# Altium footprint library Sensor_Glove-X02.PcbLib: 47 footprints (part 3 of 3)
Each footprint in its own frame and in the unit in brackets; x right, y up, seen from the top. Pads: shape width x height; smd on the part's side, far side on the other; paste and mask are expansions set on the pad; w line width, h text height; cw(c..) or ccw(c..) is an arc to the next point about the centre after c.
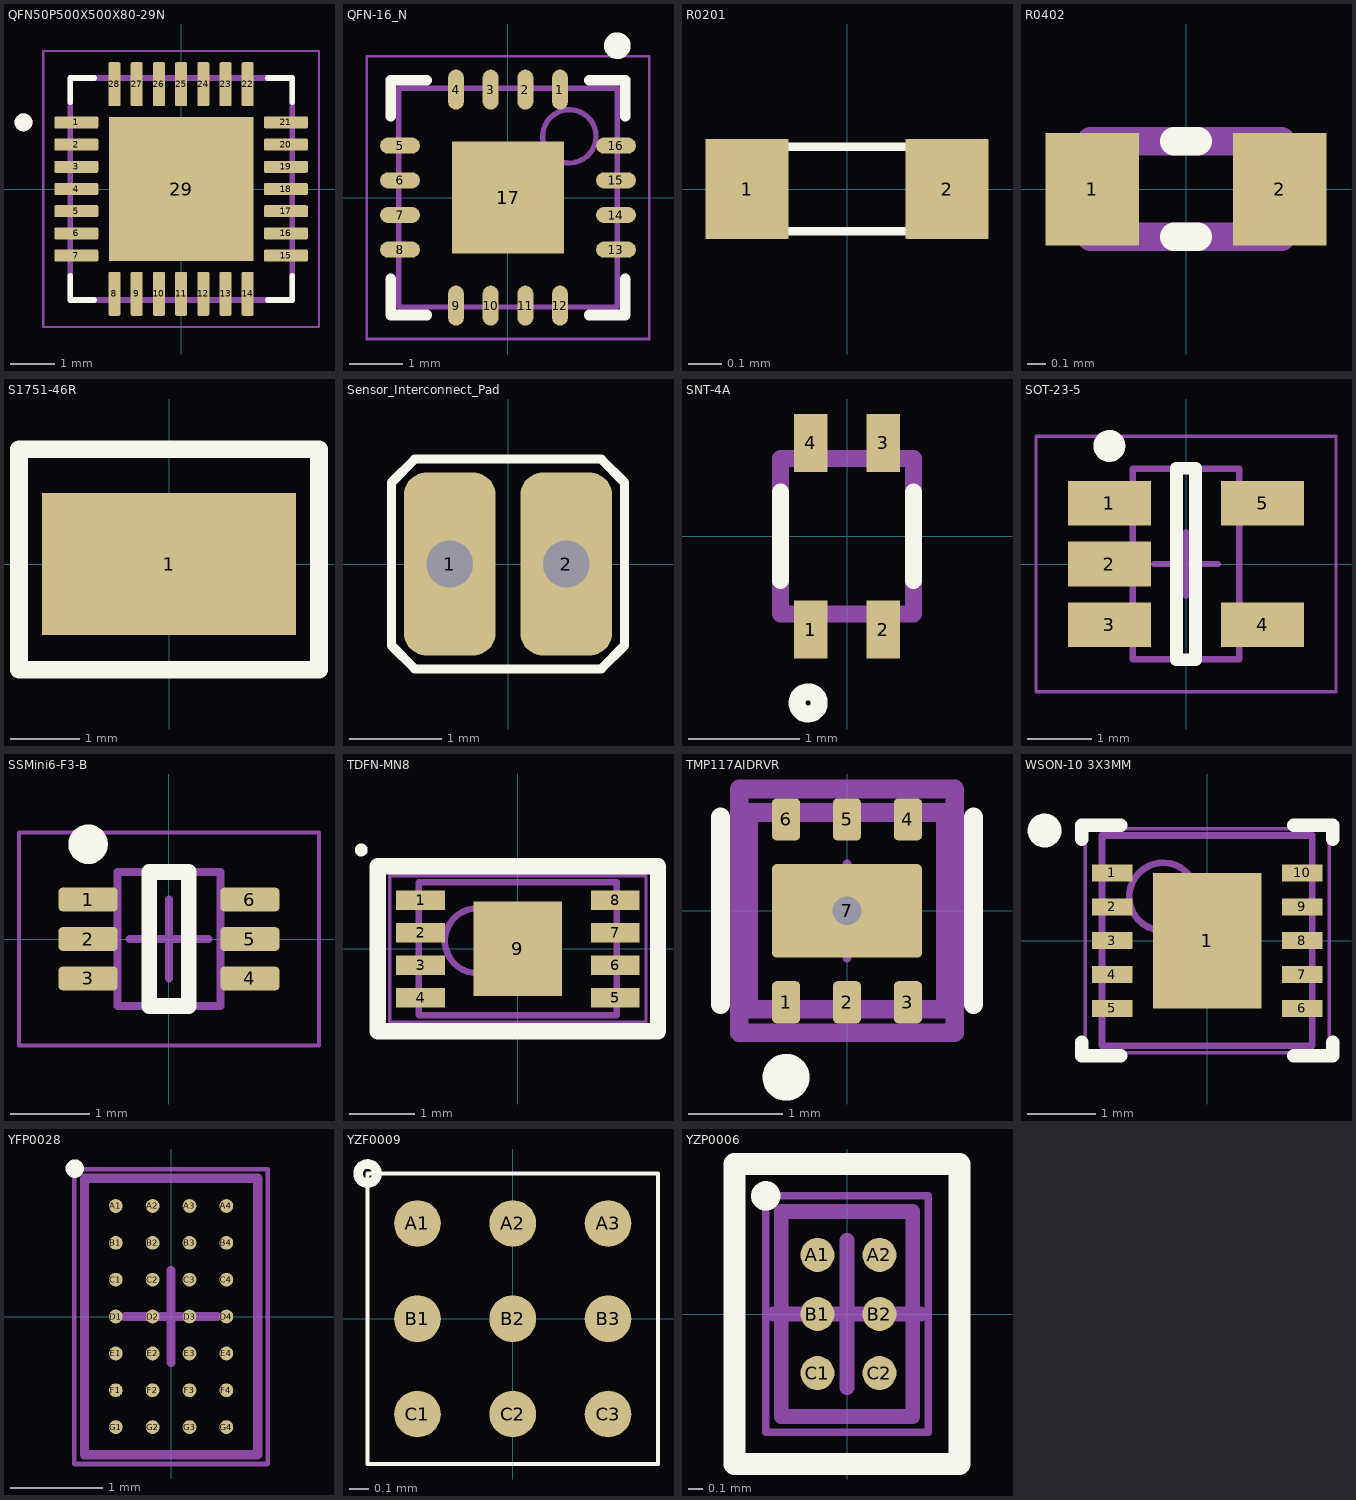
[diagram p2: the footprints below, top view; thin cyan lines are the x and y axes]

## QFN50P500X500X80-29N [mm]
pads (29):
  rrect25% 0.99x0.27 smd: 1(-2.36,1.5) 2(-2.36,1) 3(-2.36,0.5) 4(-2.36,0) 5(-2.36,-0.5) 6(-2.36,-1) 7(-2.36,-1.5) 15(2.36,-1.5) 16(2.36,-1) 17(2.36,-0.5) 18(2.36,0) 19(2.36,0.5) 20(2.36,1) 21(2.36,1.5)
  rrect25% 0.27x0.99 smd: 8(-1.5,-2.36) 9(-1,-2.36) 10(-0.5,-2.36) 11(0,-2.36) 12(0.5,-2.36) 13(1,-2.36) 14(1.5,-2.36) 22(1.5,2.36) 23(1,2.36) 24(0.5,2.36) 25(0,2.36) 26(-0.5,2.36) 27(-1,2.36) 28(-1.5,2.36)
  rect 3.25x3.25 smd paste-3: 29(0,0)
Top Overlay:
  circle w0.2: c-3.55,1.5 r0.1
  lines w0.127: -2.5,-1.955 -2.5,-2.5 -1.955,-2.5 ; -2.5,1.955 -2.5,2.5 -1.955,2.5 ; 1.955,-2.5 2.5,-2.5 2.5,-1.955 ; 1.955,2.5 2.5,2.5 2.5,1.955
Top Paste:
  region: 1.03,-1.03 -1.03,-1.03 -1.03,1.03 1.03,1.03
Mechanical 13:
  circle w0.2: c-3.55,1.5 r0.1
  lines w0.127: -2.5,-2.5 2.5,-2.5 2.5,2.5 -2.5,2.5 -2.5,-2.5
Mechanical 15:
  lines w0.05: -3.105,-3.105 3.105,-3.105 3.105,3.105 -3.105,3.105 -3.105,-3.105
3D body "21-0140L_T2855-8.step": height 0.81, standoff 0, extent -2.553,-2.553 2.553,2.553

## QFN-16_N [mm]
pads (17):
  oval 0.3x0.75 smd: 1(0.975,2.025) 2(0.325,2.025) 3(-0.325,2.025) 4(-0.975,2.025) 9(-0.975,-2.025) 10(-0.325,-2.025) 11(0.325,-2.025) 12(0.975,-2.025)
  oval 0.75x0.3 smd: 5(-2.025,0.975) 6(-2.025,0.325) 7(-2.025,-0.325) 8(-2.025,-0.975) 13(2.025,-0.975) 14(2.025,-0.325) 15(2.025,0.325) 16(2.025,0.975)
  rect 2.1x2.1 smd paste-1.05: 17(0,0)
Top Overlay:
  circle w0.25: c2.05,2.85 r0.125
  lines w0.2: -2.2,-1.525 -2.2,-2.2 -1.525,-2.2 ; -2.2,1.525 -2.2,2.2 -1.525,2.2 ; 1.525,-2.2 2.2,-2.2 2.2,-1.525 ; 1.525,2.2 2.2,2.2 2.2,1.525
Top Paste:
  region: -0.95,0.95 -0.95,-0.95 0.95,-0.95 0.95,0.95
Mechanical 13:
  circle w0.1: c1.15,1.15 r0.5
  lines w0.1: -2.05,-2.05 -2.05,2.05 2.05,2.05 2.05,-2.05 -2.05,-2.05
Mechanical 15:
  lines w0.05: -2.65,-2.65 -2.65,2.65 2.65,2.65 2.65,-2.65 -2.65,-2.65
  lines w0.1: -0.5,0 0.5,0 ; 0,-0.5 0,0.5
3D body: height 0.8, standoff 0, extent -2.05,-2.05 2.05,2.05

## R0201 [mm] "Experimental"
pads (2):
  rect 0.25x0.3 smd: 1(-0.3,0) 2(0.3,0)
Top Overlay:
  lines w0.025: -0.254,-0.127 0.254,-0.127 0.254,0.127 -0.254,0.127 -0.254,-0.127
3D body "R0201.stp": height 0.23, standoff 0, extent -0.3,-0.15 0.3,0.15

## R0402 [mm]
pads (2):
  rect 0.5x0.6 smd: 1(-0.5,0) 2(0.5,0)
Top Overlay:
  lines w0.152: -0.064,-0.254 0.064,-0.254 ; -0.064,0.254 0.064,0.254
Mechanical 3:
  lines w0.152: -0.508,-0.254 -0.508,0.254 0.508,0.254 0.508,-0.254 -0.508,-0.254
3D body "R0402.stp": height 0.35, standoff 0, extent -0.5,-0.25 0.5,0.25

## S1751-46R [mm] "PC TEST POINT TIN SMD"
pads (1):
  rect 3.65x2.05 smd: 1(0,0)
Top Overlay:
  lines w0.254: -2.159,-1.524 2.159,-1.524 2.159,1.651 -2.159,1.651 -2.159,-1.524
3D body "s1751-46r.stp": height 2, standoff -0.05, extent -1.635,-0.888 1.615,0.762

## Sensor_Interconnect_Pad [mm] "Solder PAD for sensor interconnects"
pads (2):
  rrect50% 1x2 hole 0.508: 1(-0.635,0) 2(0.635,0)
Top Overlay:
  lines w0.1: -1.27,-0.889 -1.016,-1.143 1.016,-1.143 1.27,-0.889 1.27,0.889 1.016,1.143 -1.016,1.143 -1.27,0.889 -1.27,-0.889

## SNT-4A [mm] "4-pin 1.2x1.6x0.5mm for S5712 series Hall Effect Sensors"
pads (4):
  rect 0.3x0.52 smd: 1(-0.325,-0.84) 2(0.325,-0.84) 3(0.325,0.84) 4(-0.325,0.84)
Top Overlay:
  circle w0.152: c-0.35,-1.5 r0.1
  lines w0.152: -0.6,-0.4 -0.6,0.4 ; 0.6,-0.4 0.6,0.4
Mechanical 3:
  lines w0.152: -0.6,-0.7 -0.6,0.7 0.6,0.7 0.6,-0.7 -0.6,-0.7
  text "1" at -0.4,-0.5 h0.3
3D body: height 0.13, standoff 0, extent 0.225,0.6 0.425,0.8
3D body: height 0.13, standoff 0, extent -0.425,0.6 -0.225,0.8
3D body: height 0.13, standoff 0, extent 0.225,-0.8 0.425,-0.6
3D body: height 0.13, standoff 0, extent -0.425,-0.8 -0.225,-0.6
3D body: height 0.5, standoff 0, extent -0.6,-0.7 0.6,0.7

## SOT-23-5 [mm] "SOT23, 5-Leads, Body 2.9x1.6mm, Pitch 0.95mm, Lead Span 2.8mm, IPC Low Density"
height 1.19
pads (5):
  rect 1.3x0.7 smd: 1(-1.2,0.95) 2(-1.2,0) 3(-1.2,-0.95) 4(1.2,-0.95) 5(1.2,0.95)
Top Overlay:
  circle w0.25: c-1.2,1.85 r0.125
  lines w0.2: -0.15,-1.5 -0.15,1.5 0.15,1.5 0.15,-1.5 -0.15,-1.5
Mechanical 13:
  lines w0.1: -0.835,-1.495 0.835,-1.495 0.835,1.495 -0.835,1.495 -0.835,-1.495
Mechanical 15:
  lines w0.05: -2.35,-2 2.35,-2 2.35,2 -2.35,2 -2.35,-2
  lines w0.1: -0.5,0 0.5,0 ; 0,-0.5 0,0.5
3D body: height 1.19, standoff 0.05, extent -0.835,-1.495 0.835,1.495

## SSMini6-F3-B [mm] "SOT23, 6-Leads, Body 1.7x1.3mm, Pitch 0.5mm, IPC Low Density"
height 0.6
pads (6):
  rrect33% 0.75x0.3 smd: 1(-1.025,0.5) 2(-1.025,0) 3(-1.025,-0.5) 4(1.025,-0.5) 5(1.025,0) 6(1.025,0.5)
Top Overlay:
  circle w0.25: c-1.025,1.2 r0.125
  lines w0.2: -0.25,-0.85 -0.25,0.85 0.25,0.85 0.25,-0.85 -0.25,-0.85
Mechanical 1:
  text ".Designator" at -0.508,-0.127 h0.3
Mechanical 13:
  lines w0.1: -0.65,-0.85 0.65,-0.85 0.65,0.85 -0.65,0.85 -0.65,-0.85
Mechanical 15:
  lines w0.05: -1.9,-1.35 1.9,-1.35 1.9,1.35 -1.9,1.35 -1.9,-1.35
  lines w0.1: -0.5,0 0.5,0 ; 0,-0.5 0,0.5
3D body: height 0.6, standoff 0, extent -0.65,-0.85 0.65,0.85

## TDFN-MN8 [mm] "SON, 8-Leads, Body 2x3mm, Pitch 0.5mm, Microchip Recommended"
height 0.8
pads (9):
  rect 0.75x0.3 smd: 1(-1.5,0.75) 2(-1.5,0.25) 3(-1.5,-0.25) 4(-1.5,-0.75) 5(1.5,-0.75) 6(1.5,-0.25) 7(1.5,0.25) 8(1.5,0.75)
  rect 1.36x1.46 smd: 9(0,0)
Top Overlay:
  circle w0.1: c-2.413,1.524 r0.05
  lines w0.254: -2.159,-1.27 -2.159,1.27 2.159,1.27 2.159,-1.27 -2.159,-1.27
Mechanical 13:
  circle w0.1: c-0.625,0.125 r0.5
  lines w0.1: -1.525,-1.025 -1.525,1.025 1.525,1.025 1.525,-1.025 -1.525,-1.025
Mechanical 15:
  lines w0.05: -1.975,-1.125 1.975,-1.125 1.975,1.125 -1.975,1.125 -1.975,-1.125
3D body: height 0.8, standoff 0, extent -1.524,-1.024 1.524,1.024

## TMP117AIDRVR [mm]
pads (7):
  rrect33% 0.3x0.45 smd paste+0 mask+0: 1(-0.65,-0.975) 2(0,-0.975) 3(0.65,-0.975) 4(0.65,0.975) 5(0,0.975) 6(-0.65,0.975)
  rrect10% 1.6x1 smd paste-1000 mask+0: 7(0,0)
via 0,0 diameter 0.635 hole 0.305
Top Overlay:
  circle w0.25: c-0.65,-1.775 r0.125
  lines w0.2: -1.35,-1 -1.35,1 ; 1.35,-1 1.35,1
Top Paste:
  region: 0.15,-0.5 0.14,-0.5 0.122,-0.492 0.108,-0.478 0.1,-0.46 0.1,-0.45 0.1,0.45 0.1,0.46 0.108,0.478 0.122,0.492 0.14,0.5 0.15,0.5 0.75,0.5 0.76,0.5 0.778,0.492 0.792,0.478 0.8,0.46 0.8,0.45 0.8,-0.45 0.8,-0.46 0.792,-0.478 0.778,-0.492 0.76,-0.5 0.75,-0.5
  region: -0.8,0.45 -0.8,0.46 -0.792,0.478 -0.778,0.492 -0.76,0.5 -0.75,0.5 -0.15,0.5 -0.14,0.5 -0.122,0.492 -0.108,0.478 -0.1,0.46 -0.1,0.45 -0.1,-0.45 -0.1,-0.46 -0.108,-0.478 -0.122,-0.492 -0.14,-0.5 -0.15,-0.5 -0.75,-0.5 -0.76,-0.5 -0.778,-0.492 -0.792,-0.478 -0.8,-0.46 -0.8,-0.45
Top 3D Body:
  lines w0.2: -1.05,-1.05 1.05,-1.05 1.05,1.05 -1.05,1.05 -1.05,-1.05
Top Courtyard:
  lines w0.2: -1.15,-1.3 1.15,-1.3 1.15,1.3 -1.15,1.3 -1.15,-1.3
Top Assembly:
  lines w0.2: -1.15,-1.3 1.15,-1.3 1.15,1.3 -1.15,1.3 -1.15,-1.3
  text ".Designator" at -0.095,0 h0.51
Top Component Center:
  lines w0.1: -0.5,0 0.5,0 ; 0,-0.5 0,0.5
3D body "IC_Texas_Instruments_LP5912Q3_3DRVRQ1_eec.STEP": height 0.25, standoff 0, extent -1.15,-1.3 1.15,1.3

## WSON-10 3X3MM [mm] "SON, 10-Leads, Body 3x3 mm, Pitch 0.5mm"
height 0.8
pads (11):
  rect 0.6x0.25 smd paste-0.125 mask+0.051: 1(-1.4,1) 2(-1.4,0.5) 3(-1.4,0) 4(-1.4,-0.5) 5(-1.4,-1) 6(1.4,-1) 7(1.4,-0.5) 8(1.4,0) 9(1.4,0.5) 10(1.4,1)
  rect 1.6x2 smd paste-0.05 mask+0.051: 1(0,0)
Top Overlay:
  circle w0.25: c-2.4,1.625 r0.125
  lines w0.2: -1.85,-1.5 -1.85,-1.7 -1.275,-1.7 ; -1.85,1.5 -1.85,1.7 -1.275,1.7 ; 1.275,-1.7 1.85,-1.7 1.85,-1.5 ; 1.275,1.7 1.85,1.7 1.85,1.5
Top Paste:
  rectangle: -1.9,0.875 -1.2,1.125
  rectangle: -1.9,0.375 -1.2,0.625
  rectangle: -1.9,-0.125 -1.2,0.125
  rectangle: -1.9,-0.625 -1.2,-0.375
  rectangle: -1.9,-1.125 -1.2,-0.875
  region: 1.9,1.125 1.2,1.125 1.2,0.875 1.9,0.875
  region: 1.9,0.625 1.2,0.625 1.2,0.375 1.9,0.375
  region: 1.9,0.125 1.2,0.125 1.2,-0.125 1.9,-0.125
  region: 1.9,-0.375 1.2,-0.375 1.2,-0.625 1.9,-0.625
  region: 1.9,-0.875 1.2,-0.875 1.2,-1.125 1.9,-1.125
Mechanical 13:
  circle w0.1: c-0.65,0.65 r0.5
  lines w0.1: -1.55,-1.55 -1.55,1.55 1.55,1.55 1.55,-1.55 -1.55,-1.55
Mechanical 15:
  lines w0.05: -1.8,-1.65 -1.8,1.65 1.8,1.65 1.8,-1.65 -1.8,-1.65
  lines w0.1: -0.5,0 0.5,0 ; 0,-0.5 0,0.5
3D body: height 0.8, standoff 0, extent -1.55,-1.55 1.55,1.55

## YFP0028 [mm] "BGA, 28-Balls, Body 3x1.88mm, Pitch 0.4mm"
height 0.5
pads (28):
  round 0.15 smd: A1(-0.6,1.2) A2(-0.2,1.2) A3(0.2,1.2) A4(0.6,1.2) B1(-0.6,0.8) B2(-0.2,0.8) B3(0.2,0.8) B4(0.6,0.8) C1(-0.6,0.4) C2(-0.2,0.4) C3(0.2,0.4) C4(0.6,0.4) D1(-0.6,0) D2(-0.2,0) D3(0.2,0) D4(0.6,0) E1(-0.6,-0.4) E2(-0.2,-0.4) E3(0.2,-0.4) E4(0.6,-0.4) F1(-0.6,-0.8) F2(-0.2,-0.8) F3(0.2,-0.8) F4(0.6,-0.8) G1(-0.6,-1.2) G2(-0.2,-1.2) G3(0.2,-1.2) G4(0.6,-1.2)
Top Overlay:
  circle w0.1: c-1.045,1.605 r0.05
Mechanical 13:
  lines w0.1: -0.94,-1.5 -0.94,1.5 0.94,1.5 0.94,-1.5 -0.94,-1.5
Mechanical 15:
  lines w0.05: -1.05,-1.6 -1.05,1.6 1.05,1.6 1.05,-1.6 -1.05,-1.6
  lines w0.1: -0.5,0 0.5,0 ; 0,-0.5 0,0.5
3D body: height 0.5, standoff 0.13, extent -0.94,-1.5 0.94,1.5

## YZF0009 [mm] "9-Ball DSBGA, YZF0009"
height 0.595
pads (9):
  round 0.245 smd paste+0.05 mask+0.01: A1(-0.5,0.5) A2(0,0.5) A3(0.5,0.5) B1(-0.5,0) B2(0,0) B3(0.5,0) C1(-0.5,-0.5) C2(0,-0.5) C3(0.5,-0.5)
Top Overlay:
  circle w0.05: c-0.762,0.762 r0.05
  lines w0.02: -0.762,-0.762 -0.762,0.762 0.762,0.762 0.762,-0.762 -0.762,-0.762
3D body "YZF9.step": height 1.27, standoff 0, extent -0.737,-0.737 0.737,0.737

## YZP0006 [mm] "BGA, 6-Balls, Body 1.388x0.888mm, Pitch 0.4mm"
height 0.5
pads (6):
  round 0.23 smd mask+0.05: A1(-0.2,0.4) A2(0.22,0.4) B1(-0.2,0) B2(0.22,0) C1(-0.2,-0.4) C2(0.22,-0.4)
Top Overlay:
  circle w0.1: c-0.55,0.8 r0.05
  lines w0.15: -0.762,-1.016 0.762,-1.016 0.762,1.016 -0.762,1.016 -0.762,-1.016
Mechanical 13:
  lines w0.1: -0.445,-0.695 0.445,-0.695 0.445,0.695 -0.445,0.695 -0.445,-0.695
Mechanical 15:
  lines w0.05: -0.55,-0.8 0.55,-0.8 0.55,0.8 -0.55,0.8 -0.55,-0.8
  lines w0.1: -0.5,0 0.5,0 ; 0,-0.5 0,0.5
3D body: height 0.5, standoff 0.15, extent -0.445,-0.695 0.445,0.695